# EAGLE library part LMX9838 (library 1)
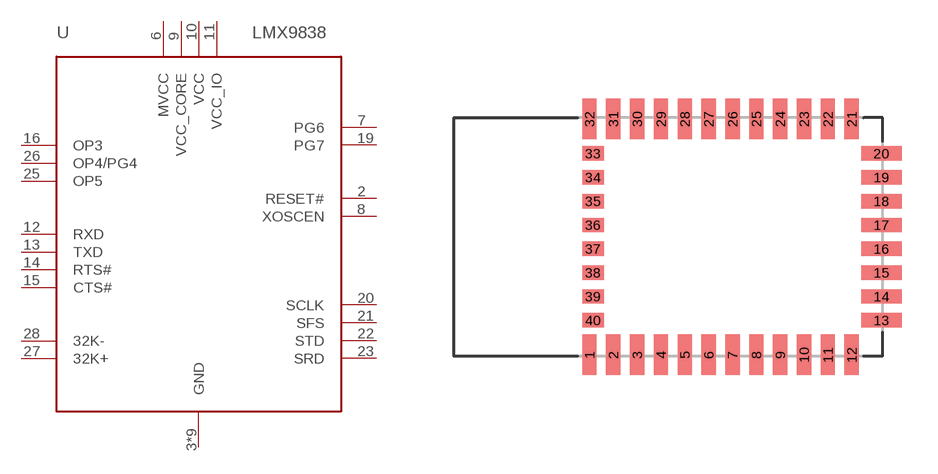
[diagram p19: symbol with the pads of NAW0070A; footprint NAW0070A]

Designator prefix U

## LMX9838  [NAW0070A]
2  RESET#
3  GND
4  GND
6  MVCC
7  PG6
8  XOSCEN
9  VCC_CORE
10  VCC
11  VCC_IO
12  RXD
13  TXD
14  RTS#
15  CTS#
16  OP3
17  GND
18  GND
19  PG7
20  SCLK
21  SFS
22  STD
23  SRD
24  GND
25  OP5
26  OP4/PG4
27  32K+
28  32K-
29  GND
30  GND
31  GND
32  GND

## Footprint NAW0070A (pad centres in mm)
PLGA Texas Instruments NAW0070A
smd 0.6 x 1.7: 1 -6,-4.95; 2 -5,-4.95; 3 -4,-4.95; 4 -3,-4.95; 5 -2,-4.95; 6 -1,-4.95; 7 0,-4.95; 8 1,-4.95; 9 2,-4.95; 10 3,-4.95; 11 4,-4.95; 12 5,-4.95; 21 5,4.95; 22 4,4.95; 23 3,4.95; 24 2,4.95; 25 1,4.95; 26 0,4.95; 27 -1,4.95; 28 -2,4.95; 29 -3,4.95; 30 -4,4.95; 31 -5,4.95; 32 -6,4.95
smd 1.7 x 0.6: 13 6.25,-3.5; 14 6.25,-2.5; 15 6.25,-1.5; 16 6.25,-0.5; 17 6.25,0.5; 18 6.25,1.5; 19 6.25,2.5; 20 6.25,3.5
smd 0.9 x 0.6: 33 -5.85,3.5; 34 -5.85,2.5; 35 -5.85,1.5; 36 -5.85,0.5; 37 -5.85,-0.5; 38 -5.85,-1.5; 39 -5.85,-2.5; 40 -5.85,-3.5